# Altium footprint library PcbLib2.PcbLib: 1 footprints
Each footprint in its own frame and in the unit in brackets; x right, y up, seen from the top. Pads: shape width x height; smd on the part's side, far side on the other; paste and mask are expansions set on the pad; w line width, h text height; cw(c..) or ccw(c..) is an arc to the next point about the centre after c.
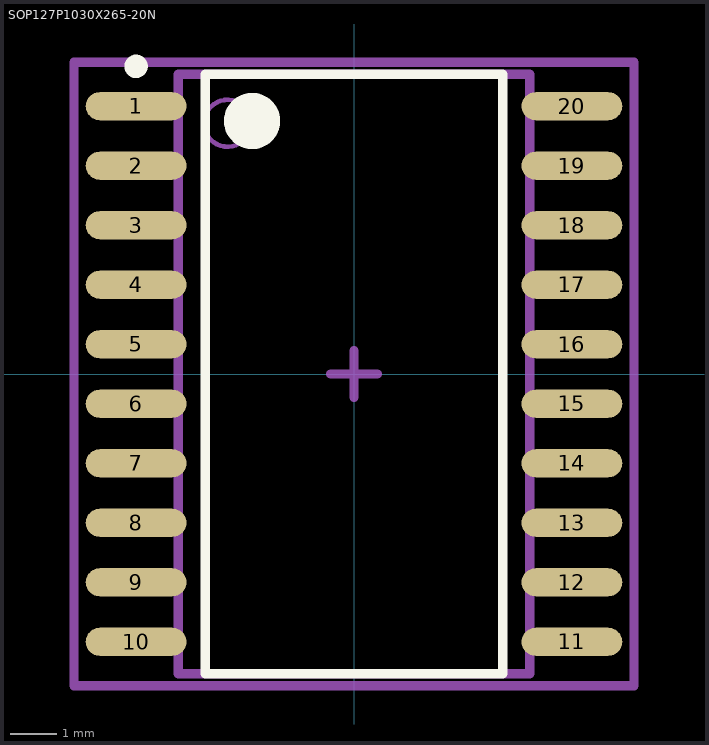
[diagram p0: the footprint, top view; thin cyan lines are the x and y axes]

## SOP127P1030X265-20N [mm] "SOP, 20-Leads, Body 12.8x7.5mm (max), Pitch 1.27mm, IPC Medium Density"
height 2.65
pads (20):
  oval 2.15x0.6 smd: 1(-4.65,5.715) 2(-4.65,4.445) 3(-4.65,3.175) 4(-4.65,1.905) 5(-4.65,0.635) 6(-4.65,-0.635) 7(-4.65,-1.905) 8(-4.65,-3.175) 9(-4.65,-4.445) 10(-4.65,-5.715) 11(4.65,-5.715) 12(4.65,-4.445) 13(4.65,-3.175) 14(4.65,-1.905) 15(4.65,-0.635) 16(4.65,0.635) 17(4.65,1.905) 18(4.65,3.175) 19(4.65,4.445) 20(4.65,5.715)
Top Overlay:
  circle w0.6: c-2.175,5.4 r0.3
  circle w0.25: c-4.65,6.565 r0.125
  lines w0.2: -3.175,-6.4 3.175,-6.4 3.175,6.4 -3.175,6.4 -3.175,-6.4
Mechanical 13:
  circle w0.1: c-2.7,5.35 r0.5
  lines w0.2: -3.75,-6.4 3.75,-6.4 3.75,6.4 -3.75,6.4 -3.75,-6.4
Mechanical 15:
  lines w0.2: -0.5,0 0.5,0 ; 0,-0.5 0,0.5 ; -5.975,-6.65 5.975,-6.65 5.975,6.65 -5.975,6.65 -5.975,-6.65
3D body: height 2.65, standoff 0.2, extent -3.75,-6.4 3.75,6.4